# Altium footprint library Molex_GPS_L1_L5_GLONASS_36MM_STACKED_2116240001.PcbLib: 1 footprints
Each footprint in its own frame and in the unit in brackets; x right, y up, seen from the top. Pads: shape width x height; smd on the part's side, far side on the other; paste and mask are expansions set on the pad; w line width, h text height; cw(c..) or ccw(c..) is an arc to the next point about the centre after c.
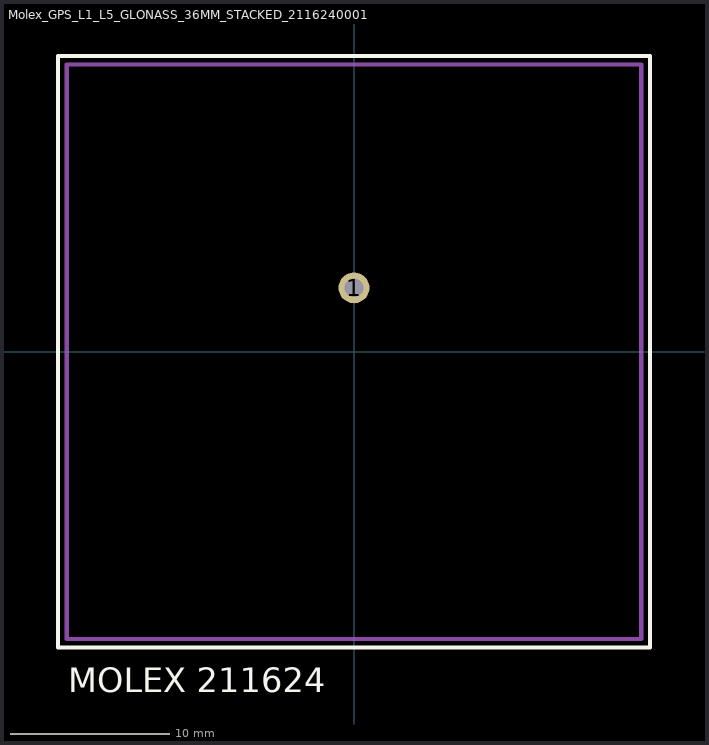
[diagram p0: the footprint, top view; thin cyan lines are the x and y axes]

## Molex_GPS_L1_L5_GLONASS_36MM_STACKED_2116240001 [mm]
height 7
pads (1):
  round 1.93 hole 1.168: 1(0,4)
Top Overlay:
  lines w0.254: -18.542,-18.542 18.542,-18.542 18.542,18.542 -18.542,18.542 -18.542,-18.542
  text "MOLEX 211624" at -17.907,-21.336 h1.52
Mechanical 1:
  lines w0.254: -18,-18 18,-18 18,18 -18,18 -18,-18
3D body "2116240001.stp": height 7.7, standoff -1.5, extent -17.95,-18.034 19.05,17.966